# Altium schematic symbol library STM32G431C6T6.SchLib: 1 symbol
Pins are listed as number, name and electrical type; pins without a type are passive.

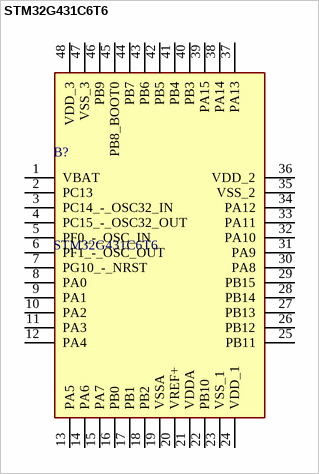
[diagram p0: symbol STM32G431C6T6]

## STM32G431C6T6
designator B?
ARM Microcontrollers - MCU; Manufacturer_Name: STMicroelectronics; Geometry.Height: 1.6mm; Mouser Part Number: 511-STM32G431C6T6; Mouser Price/Stock: https://www.mouser.co.uk/ProductDetail/STMicroelectronics/STM32G431C6T6?qs=uwxL4vQweFMIHkXLHKxSFQ%3D%3D; Manufacturer_Part_Number: STM32G431C6T6; Datasheet Link: https://componentsearchengine.com/Datasheets/1/STM32G431C6T6.pdf
footprint QFP50P900X900X160-48N
pins: 1 VBAT, 2 PC13, 3 PC14_-_OSC32_IN, 4 PC15_-_OSC32_OUT, 5 PF0_-_OSC_IN, 6 PF1_-_OSC_OUT, 7 PG10_-_NRST, 8 PA0, 9 PA1, 10 PA2, 11 PA3, 12 PA4, 13 PA5, 14 PA6, 15 PA7, 16 PB0, 17 PB1, 18 PB2, 19 VSSA, 20 VREF+, 21 VDDA, 22 PB10, 23 VSS_1, 24 VDD_1, 25 PB11, 26 PB12, 27 PB13, 28 PB14, 29 PB15, 30 PA8, 31 PA9, 32 PA10, 33 PA11, 34 PA12, 35 VSS_2, 36 VDD_2, 37 PA13, 38 PA14, 39 PA15, 40 PB3, 41 PB4, 42 PB5, 43 PB6, 44 PB7, 45 PB8_BOOT0, 46 PB9, 47 VSS_3, 48 VDD_3